# EAGLE library part IMM0205D15 (library Egna komponenter)
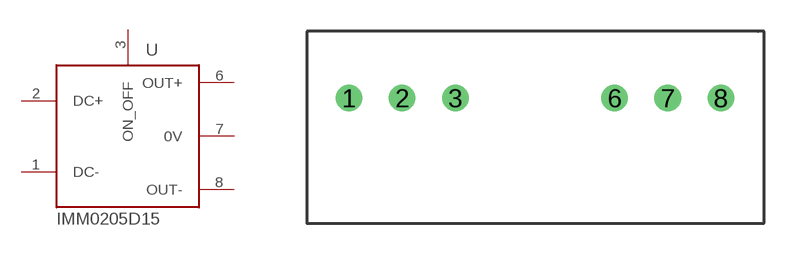
[diagram p3: symbol with the pads of IMM02_DC_CONV; footprint IMM02_DC_CONV]

Designator prefix U

## IMM0205D15  [IMM02_DC_CONV]
1  DC-  in
2  DC+  in
3  ON_OFF  in
6  OUT+  pas
7  0V  pas
8  OUT-  pas

## Footprint IMM02_DC_CONV (pad centres in mm)
drill 0.6 pad 1.27: 1 0,0; 2 2.54,0; 3 5.08,0; 6 12.7,0; 7 15.24,0; 8 17.78,0